# Altium schematic symbol library PH2-12-UA.SchLib: 1 symbol
Pins are listed as number, name and electrical type; pins without a type are passive.

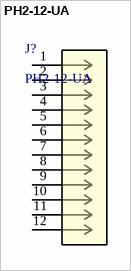
[diagram p0: symbol PH2-12-UA]

## PH2-12-UA
designator J?
Description; Manufacturer_Name: ADAM TECHNOLOGIES INC; Type: Headers, Male Pins; Copyright: Copyright (C) 2025 Ultra Librarian. All rights reserved.; Manufacturer_Part_Number: PH2-12-UA; RefDes: RefDes
footprint CONN_PH2-12-UA_ADM
pins: 1, 2, 3, 4, 5, 6, 7, 8, 9, 10, 11, 12